# Altium footprint library tyco-mod.PcbLib: 2 footprints
Each footprint in its own frame and in the unit in brackets; x right, y up, seen from the top. Pads: shape width x height; smd on the part's side, far side on the other; paste and mask are expansions set on the pad; w line width, h text height; cw(c..) or ccw(c..) is an arc to the next point about the centre after c.
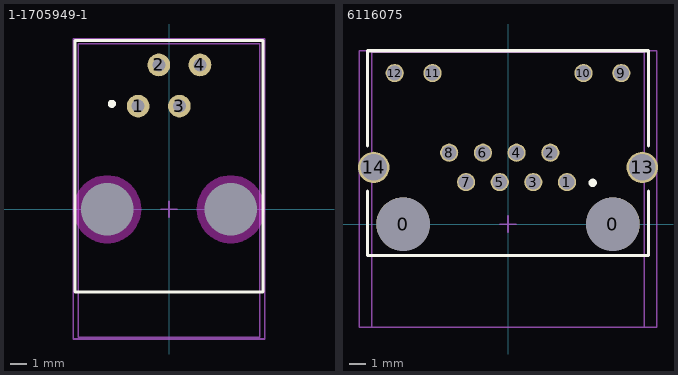
[diagram p0: the footprints below, top view; thin cyan lines are the x and y axes]

## 1-1705949-1 [mm] "Modular Jack 4 Pos"
height 1.8
pads (6):
  round 0 hole 3.25 unplated: 0(-3.81,0) 0(3.81,0)
  round 1.4 hole 0.8: 1(-1.9,6.36) 2(-0.63,8.9) 3(0.64,6.36) 4(1.91,8.9)
Top Overlay:
  circle w0.25: c-3.525,6.5 r0.125
  lines w0.2: -5.8,-5.1 5.8,-5.1 5.8,10.4 -5.8,10.4 -5.8,-5.1
Mechanical 13:
  lines w0.1: -0.5,0 0.5,0 ; 0,-0.5 0,0.5 ; -5.6,-7.9 5.6,-7.9 5.6,10.2 -5.6,10.2 -5.6,-7.9
Mechanical 15:
  lines w0.1: -5.9,-8 5.9,-8 5.9,10.5 -5.9,10.5 -5.9,-8
  text ".Designator" at -2.55,5.65 h0.5
Multi-Layer keep-out:
  circle w1: c3.81,0 r1.6
  circle w1: c-3.81,0 r1.6
3D body: height 11.75, standoff -2.95, extent -5.6,-7.9 5.6,10.2

## 6116075 [mm] "Modular Jack"
height 1.8
pads (16):
  round 3.25 hole 3.25 unplated: 0(-6.35,0) 0(6.35,0)
  round 1.1 hole 0.9: 1(3.57,2.54) 2(2.56,4.32) 3(1.53,2.54) 4(0.52,4.32) 5(-0.5,2.54) 6(-1.52,4.32) 7(-2.54,2.54) 8(-3.56,4.32) 9(6.86,9.14) 10(4.57,9.14) 11(-4.57,9.14) 12(-6.86,9.14)
  round 1.9 hole 1.6: 13(8.13,3.43) 14(-8.13,3.43)
Top Overlay:
  circle w0.25: c5.125,2.5 r0.125
  lines w0.2: -8.5,2 -8.5,-1.9 8.5,-1.9 8.5,2 ; -8.5,4.75 -8.5,10.5 8.5,10.5 8.5,4.75
Mechanical 13:
  lines w0.1: -0.5,0 0.5,0 ; 0,-0.5 0,0.5 ; -8.25,-6.25 -8.25,10.4 8.25,10.4 8.25,-6.25 -8.25,-6.25
Mechanical 15:
  lines w0.1: -9,-6.25 -9,10.5 9,10.5 9,-6.25 -9,-6.25
  text ".Designator" at -2.55,5.65 h0.5
3D body: height 13.03, standoff -4.5, extent -8.319,-6.25 8.319,10.436